# EAGLE library part CY8C286XX (library cypresspsoc_0.30)
CY8C28623, CY8C28643, and CY8C28645 QFN 48-Pin PSoC Devices
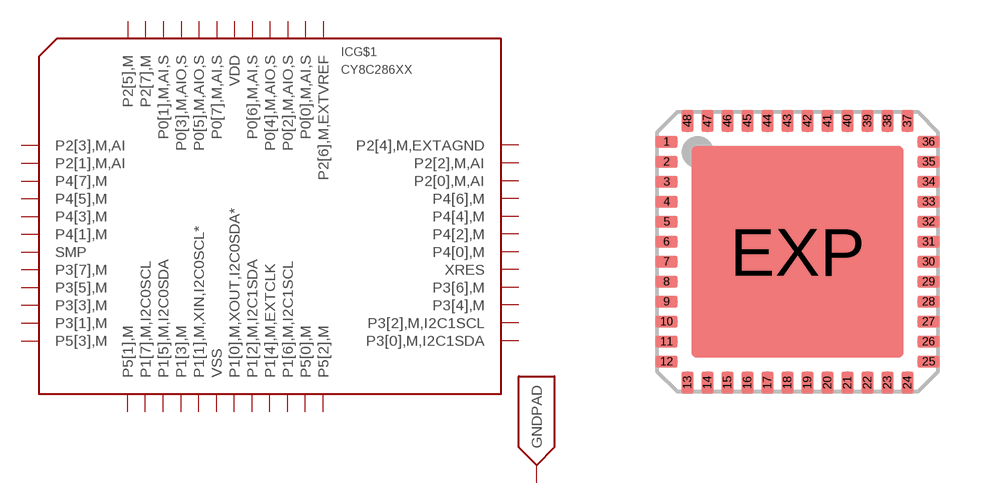
[diagram p17: symbol with the pads of QFN48; footprint QFN48]

Designator prefix IC; gates G$1=CY8C286XX G$2=GNDPAD

## CY8C286XX_QFN48  [QFN48]
1  G$1:P2[3],M,AI
2  G$1:P2[1],M,AI
3  G$1:P4[7],M
4  G$1:P4[5],M
5  G$1:P4[3],M
6  G$1:P4[1],M
7  G$1:SMP  pwr
8  G$1:P3[7],M
9  G$1:P3[5],M
10  G$1:P3[3],M
11  G$1:P3[1],M
12  G$1:P5[3],M
13  G$1:P5[1],M
14  G$1:P1[7],M,I2C0SCL
15  G$1:P1[5],M,I2C0SDA
16  G$1:P1[3],M
17  G$1:P1[1],M,XIN,I2C0SCL*
18  G$1:VSS  pwr
19  G$1:P1[0],M,XOUT,I2C0SDA*
20  G$1:P1[2],M,I2C1SDA
21  G$1:P1[4],M,EXTCLK
22  G$1:P1[6],M,I2C1SCL
23  G$1:P5[0],M
24  G$1:P5[2],M
25  G$1:P3[0],M,I2C1SDA
26  G$1:P3[2],M,I2C1SCL
27  G$1:P3[4],M
28  G$1:P3[6],M
29  G$1:XRES
30  G$1:P4[0],M
31  G$1:P4[2],M
32  G$1:P4[4],M
33  G$1:P4[6],M
34  G$1:P2[0],M,AI
35  G$1:P2[2],M,AI
36  G$1:P2[4],M,EXTAGND
37  G$1:P2[6],M,EXTVREF
38  G$1:P0[0],M,AI,S
39  G$1:P0[2],M,AIO,S
40  G$1:P0[4],M,AIO,S
41  G$1:P0[6],M,AI,S
42  G$1:VDD  pwr
43  G$1:P0[7],M,AI,S
44  G$1:P0[5],M,AIO,S
45  G$1:P0[3],M,AIO,S
46  G$1:P0[1],M,AI,S
47  G$1:P2[7],M
48  G$1:P2[5],M
EXP  G$2:GNDPAD  pwr

## Footprint QFN48 (pad centres in mm)
48-pin QFN 7 x 7 mm LF48 48 Quad Flat Package No Leads Source: http://v4.cypress.com/cfuploads/img/products/cywusb6934.pdf
smd 0.55 x 0.3: 1 -3.275,2.75; 2 -3.275,2.25; 3 -3.275,1.75; 4 -3.275,1.25; 5 -3.275,0.75; 6 -3.275,0.25; 7 -3.275,-0.25; 8 -3.275,-0.75; 9 -3.275,-1.25; 10 -3.275,-1.75; 11 -3.275,-2.25; 12 -3.275,-2.75; 25 3.275,-2.75; 26 3.275,-2.25; 27 3.275,-1.75; 28 3.275,-1.25; 29 3.275,-0.75; 30 3.275,-0.25; 31 3.275,0.25; 32 3.275,0.75; 33 3.275,1.25; 34 3.275,1.75; 35 3.275,2.25; 36 3.275,2.75
smd 0.3 x 0.55: 13 -2.75,-3.275; 14 -2.25,-3.275; 15 -1.75,-3.275; 16 -1.25,-3.275; 17 -0.75,-3.275; 18 -0.25,-3.275; 19 0.25,-3.275; 20 0.75,-3.275; 21 1.25,-3.275; 22 1.75,-3.275; 23 2.25,-3.275; 24 2.75,-3.275; 37 2.75,3.275; 38 2.25,3.275; 39 1.75,3.275; 40 1.25,3.275; 41 0.75,3.275; 42 0.25,3.275; 43 -0.25,3.275; 44 -0.75,3.275; 45 -1.25,3.275; 46 -1.75,3.275; 47 -2.25,3.275; 48 -2.75,3.275
smd 5.309 x 5.309: EXP 0,0